# Altium footprint library RJ45 连接器.PcbLib: 3 footprints
Each footprint in its own frame and in the unit in brackets; x right, y up, seen from the top. Pads: shape width x height; smd on the part's side, far side on the other; paste and mask are expansions set on the pad; w line width, h text height; cw(c..) or ccw(c..) is an arc to the next point about the centre after c.
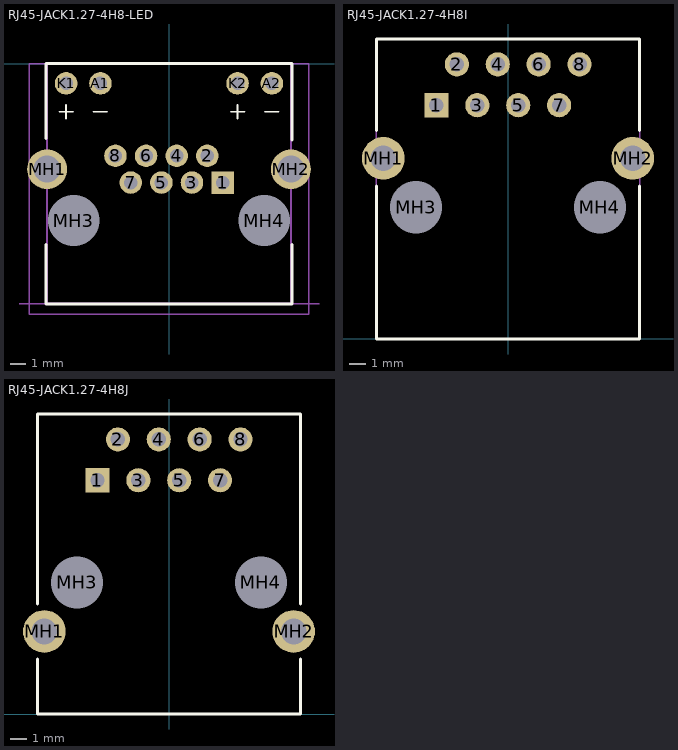
[diagram p0: the footprints below, top view; thin cyan lines are the x and y axes]

## RJ45-JACK1.27-4H8-LED [mm] "Connector; PCB Jack, Thru-Hole; 1-Port, 8 Positions, 8 Loaded; Shielded without Lightpipes; Right Angle"
height 13.08
pads (16):
  rect 1.5x1.5 hole 0.9: 1(3.572,-7.932)
  round 1.5 hole 0.9: 2(2.552,-6.152) 3(1.532,-7.932) 4(0.512,-6.152) 5(-0.508,-7.932) 6(-1.528,-6.152) 7(-2.548,-7.932) 8(-3.568,-6.152) A1(-4.57,-1.321) A2(6.86,-1.321) K1(-6.86,-1.321) K2(4.57,-1.321)
  round 2.65 hole 1.8: MH1(-8.13,-7.043) MH2(8.13,-7.043)
  round 3.25 hole 3.4 unplated: MH3(-6.35,-10.472) MH4(6.35,-10.472)
Top Overlay:
  lines w0.127: -7.315,-3.211 -6.401,-3.211 ; -6.858,-3.668 -6.858,-2.753 ; -5.029,-3.211 -4.115,-3.211 ; 4.115,-3.211 5.029,-3.211 ; 4.572,-3.668 4.572,-2.753 ; 6.401,-3.211 7.315,-3.211
  lines w0.2: -8.2,-12.071 -8.2,-16.014 8.2,-16.014 8.2,-12.071 ; -8.2,-4.991 -8.2,0 8.2,0 8.2,-5.092
Mechanical 1:
  lines w0.1: -10,-16.014 10,-16.014
  text "PCB Endg" at -2.946,-15.494 h1.52
Mechanical 13:
  lines w0.1: -9.322,-16.726 -9.322,0 9.322,0 9.322,-16.726 -9.322,-16.726
Mechanical 15:
  lines w0.127: -8.13,-16.002 8.13,-16.002 8.13,0 -8.13,0 -8.13,-16.002
3D body: height 14.6, standoff -4.12, extent -9.322,-16.726 9.322,0

## RJ45-JACK1.27-4H8I [mm] "Connector; PCB Jack, Thru-Hole; 1-Port, 8 Positions, 8 Loaded; Shielded without Lightpipes; Right Angle"
height 12.09
pads (12):
  rect 1.5x1.5 hole 0.9: 1(-4.445,14.529)
  round 1.5 hole 0.9: 2(-3.175,17.069) 3(-1.905,14.529) 4(-0.635,17.069) 5(0.635,14.529) 6(1.905,17.069) 7(3.175,14.529) 8(4.445,17.069)
  round 2.65 hole 1.6: MH1(-7.747,11.227) MH2(7.747,11.227)
  round 2.95 hole 3.25 unplated: MH3(-5.715,8.179) MH4(5.715,8.179)
Top Overlay:
  lines w0.2: -8.179,9.503 -8.179,0 8.179,0 8.179,9.503 ; -8.179,12.951 -8.179,18.644 8.179,18.644 8.179,12.951
Mechanical 13:
  lines w0.1: -8.179,0 -8.179,18.644 8.179,18.644 8.179,0 -8.179,0
3D body: height 12.01, standoff -4.04, extent -8.179,0 8.179,18.649

## RJ45-JACK1.27-4H8J [mm] "Connector; PCB Jack, Thru-Hole; 1-Port, 8 Positions, 8 Loaded; Shielded without Lightpipes; Right Angle"
height 12.09
pads (12):
  rect 1.5x1.5 hole 0.9: 1(-4.445,14.529)
  round 1.5 hole 0.9: 2(-3.175,17.069) 3(-1.905,14.529) 4(-0.635,17.069) 5(0.635,14.529) 6(1.905,17.069) 7(3.175,14.529) 8(4.445,17.069)
  round 2.65 hole 1.6: MH1(-7.747,5.131) MH2(7.747,5.131)
  round 2.95 hole 3.25 unplated: MH3(-5.715,8.179) MH4(5.715,8.179)
Top Overlay:
  lines w0.2: -8.179,3.407 -8.179,0 8.179,0 8.179,3.407 ; -8.179,6.855 -8.179,18.649 8.179,18.649 8.179,6.855
3D body: height 11.73, standoff -4.04, extent -8.179,0 8.179,18.649